# EAGLE library part A054-970M1 (library saw-filters-narrowband)
A054-970M1 Параметр Ед. изм. Мин. значение Тип. значение Макс. значение Центральная частота МГц 969 970 971 Минимальное вносимое затухание дБ - 3.2 3.7 Полоса среза по уровню -2 дБ МГц 38 40 - Полоса среза по уровню -30 дБ МГц - 78 - Неравномерность АЧХ дБ - 0.9 1.3 Групповое время задержки нс - - - Гарантированное затухание дБ - 50 - Температурный диапазон °C -55 22 +85 Материал подложки - - Ниобат лития 64 -
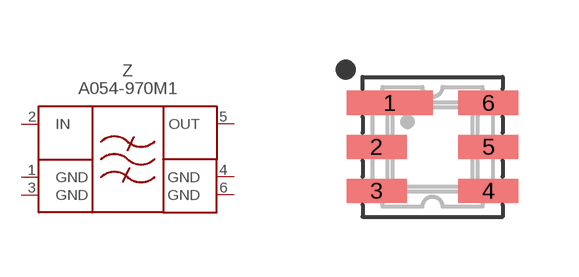
[diagram p104: symbol with the pads of DCC6; footprint DCC6]

Designator prefix Z

## A054-970M1  [DCC6]
1  GND  pwr
2  IN  in
3  GND  pwr
4  GND  pwr
5  OUT  out
6  GND  pwr

## Footprint DCC6 (pad centres in mm)
smd 2.15 x 0.6: 1 -1.075,1.1
smd 1.5 x 0.6: 2 -1.4,0; 3 -1.4,-1.1; 4 1.4,-1.1; 5 1.4,0; 6 1.4,1.1